# Altium schematic symbol library Filters.SchLib: 2 symbols
Pins are listed as number, name and electrical type; pins without a type are passive.

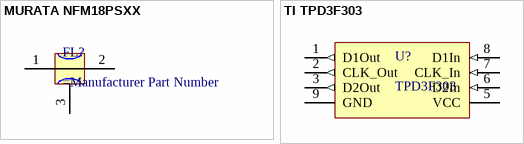
[diagram p0: symbols MURATA NFM18PSXX to TI TPD3F303]

## MURATA NFM18PSXX
designator FL?
Feed Through Capacitors
footprint MURATA NFM18PS105R0J3D
pins: 1, 2 (power), 3

## TI TPD3F303
designator U?, comment TPD3F303
ESD Protection and EMI Filter for SIM Card Interface; MPN: TPD3F303
footprint TI DQD-8 (SON, 8-Leads, Body 1,70x1,35mm, Pitch 0,40mm, Thermal Pad 1,15x0,00mm, IPC Medium Density)
pins: 1 D1Out (out), 2 CLK_Out (out), 3 D2Out (out), 4 NC hidden, 5 VCC (power), 6 D2In (in), 7 CLK_In (in), 8 D1In (in), 9 GND (power)